# Altium footprint library relay.PcbLib: 1 footprints
Each footprint in its own frame and in the unit in brackets; x right, y up, seen from the top. Pads: shape width x height; smd on the part's side, far side on the other; paste and mask are expansions set on the pad; w line width, h text height; cw(c..) or ccw(c..) is an arc to the next point about the centre after c.
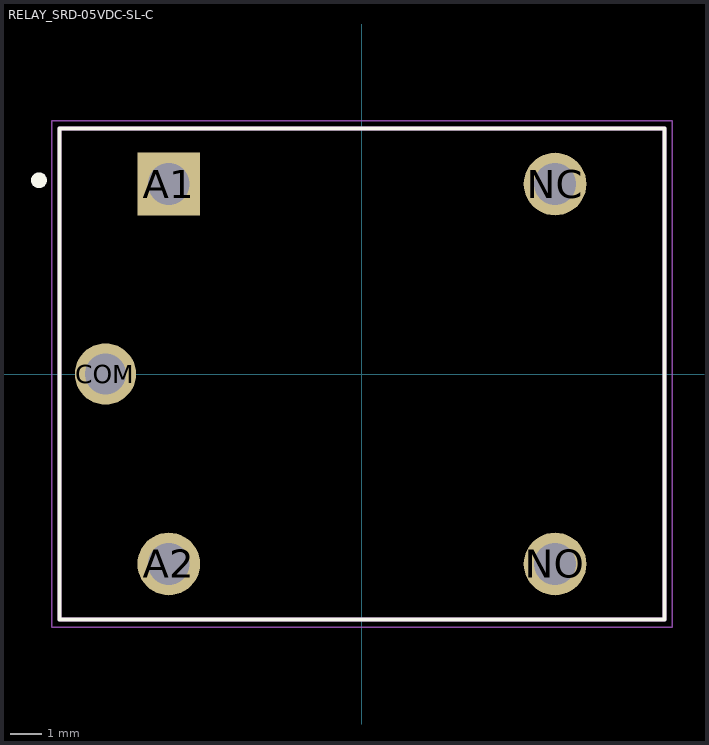
[diagram p0: the footprint, top view; thin cyan lines are the x and y axes]

## RELAY_SRD-05VDC-SL-C [mm]
pads (5):
  rect 1.98x1.98 / inner round 1.98 / far side rect 1.98x1.98 hole 1.32: A1(-6.1,6)
  round 1.98 hole 1.32: A2(-6.1,-6) NC(6.1,6) NO(6.1,-6)
  round 1.935 hole 1.29: COM(-8.1,0)
Top Overlay:
  circle w0.3: c-10.2,6.119 r0.1
  lines w0.127: -9.55,-7.75 9.55,-7.75 9.55,7.75 -9.55,7.75 -9.55,-7.75
Mechanical 13:
  lines w0.127: -9.55,-7.75 9.55,-7.75 9.55,7.75 -9.55,7.75 -9.55,-7.75
Mechanical 15:
  lines w0.05: -9.8,-8 9.8,-8 9.8,8 -9.8,8 -9.8,-8
3D body "step_temp.STEP": height 15.8, standoff -3, extent -9.6,-7.8 9.6,7.8